# Altium schematic symbol library ReferenceVoltage.SchLib: 1 symbol
Pins are listed as number, name and electrical type; pins without a type are passive.

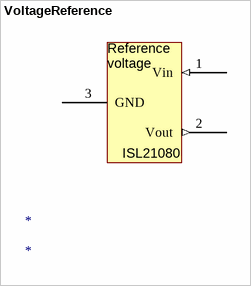
[diagram p0: symbol VoltageReference]

## VoltageReference
designator *
footprint ISL21080 (SOT23, 3-Leads, Body 2,92x2,37mm, Pitch 0,95mm, IPC Medium Density)
pins: 1 Vin (in), 2 Vout (out), 3 GND (power)
text: Reference; voltage; ISL21080